# Altium integrated library Unified Modules.IntLib: 2 symbols
Pins are listed as number, name and electrical type; pins without a type are passive.

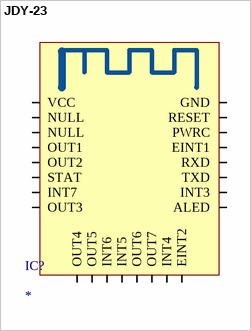
[diagram p0: symbol JDY-23]

## JDY-23
designator IC?
Bluetooth module, 2.4 GHz
footprint JDY-23
pins: 1 VCC, 2 NULL, 3 NULL, 4 OUT1, 5 OUT2, 6 STAT, 7 INT7, 8 OUT3, 9 OUT4, 10 OUT5, 11 INT6, 12 INT5, 13 OUT6, 14 OUT7, 15 INT4, 16 EINT2, 17 ALED, 18 INT3, 19 TXD, 20 RXD, 21 EINT1, 22 PWRC, 23 RESET, 24 GND


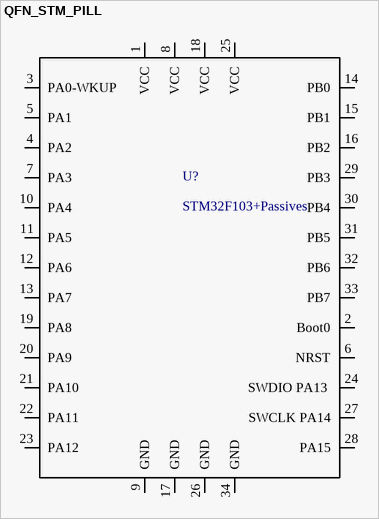
[diagram p1: symbol QFN_STM_PILL]

## QFN_STM_PILL
designator U?, comment STM32F103+Passives
footprint QFN_STM_PILL
pins: 1 VCC, 2 Boot0, 3 PA0-WKUP, 4 PA2, 5 PA1, 6 NRST, 7 PA3, 8 VCC, 9 GND, 10 PA4, 11 PA5, 12 PA6, 13 PA7, 14 PB0, 15 PB1, 16 PB2, 17 GND, 18 VCC, 19 PA8, 20 PA9, 21 PA10, 22 PA11, 23 PA12, 24 SWDIO PA13 , 25 VCC, 26 GND, 27 SWCLK PA14, 28 PA15, 29 PB3, 30 PB4, 31 PB5, 32 PB6, 33 PB7, 34 GND